# Altium schematic symbol library SCH - MCU - STM32 - ST MICROELECTRONICS STM32N657A0HXQ VFBGA169.SchLib: 1 symbol
Pins are listed as number, name and electrical type; pins without a type are passive.

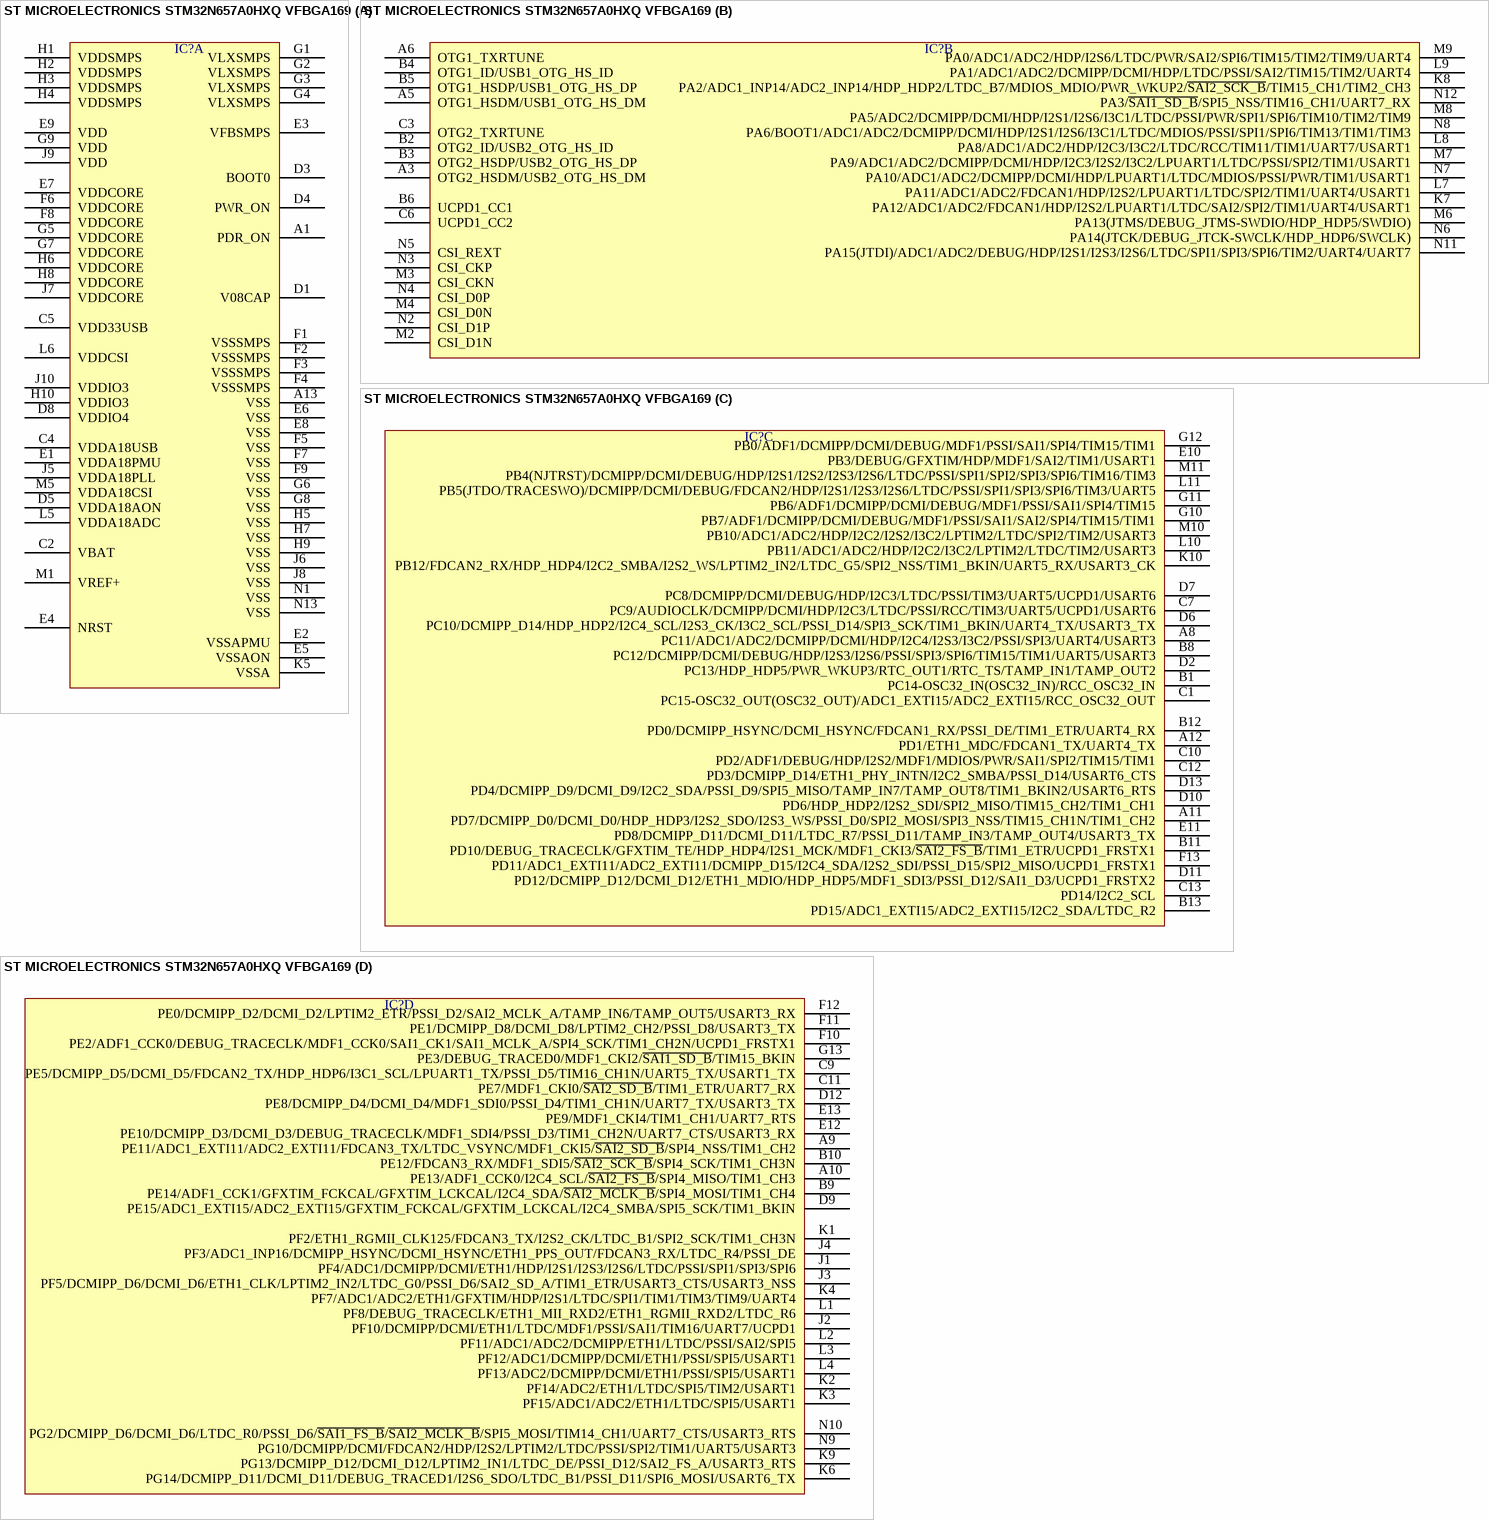
[diagram p0: symbol ST MICROELECTRONICS STM32N657A0HXQ VFBGA169]

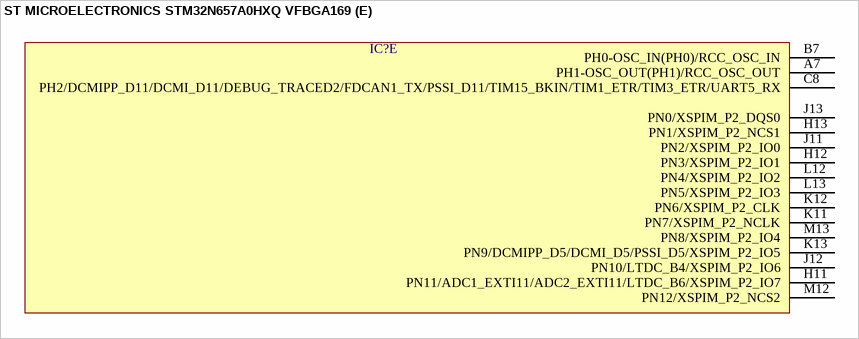
[diagram p1: symbol ST MICROELECTRONICS STM32N657A0HXQ VFBGA169]

## ST MICROELECTRONICS STM32N657A0HXQ VFBGA169
designator IC?
part A pins: A1 PDR_ON, A13 VSS, C2 VBAT, C4 VDDA18USB, C5 VDD33USB, D1 V08CAP, D3 BOOT0, D4 PWR_ON, D5 VDDA18AON, D8 VDDIO4, E1 VDDA18PMU, E2 VSSAPMU, E3 VFBSMPS, E4 NRST, E5 VSSAON, E6 VSS, E7 VDDCORE, E8 VSS, E9 VDD, F1 VSSSMPS, F2 VSSSMPS, F3 VSSSMPS, F4 VSSSMPS, F5 VSS, F6 VDDCORE, F7 VSS, F8 VDDCORE, F9 VSS, G1 VLXSMPS, G2 VLXSMPS, G3 VLXSMPS, G4 VLXSMPS, G5 VDDCORE, G6 VSS, G7 VDDCORE, G8 VSS, G9 VDD, H1 VDDSMPS, H2 VDDSMPS, H3 VDDSMPS, H4 VDDSMPS, H5 VSS, H6 VDDCORE, H7 VSS, H8 VDDCORE, H9 VSS, H10 VDDIO3, J5 VDDA18PLL, J6 VSS, J7 VDDCORE, J8 VSS, J9 VDD, J10 VDDIO3, K5 VSSA, L5 VDDA18ADC, L6 VDDCSI, M1 VREF+, M5 VDDA18CSI, N1 VSS, N13 VSS
part B pins: A3 OTG2_HSDM/USB2_OTG_HS_DM, A5 OTG1_HSDM/USB1_OTG_HS_DM, A6 OTG1_TXRTUNE, B2 OTG2_ID/USB2_OTG_HS_ID, B3 OTG2_HSDP/USB2_OTG_HS_DP, B4 OTG1_ID/USB1_OTG_HS_ID, B5 OTG1_HSDP/USB1_OTG_HS_DP, B6 UCPD1_CC1, C3 OTG2_TXRTUNE, C6 UCPD1_CC2, K7 PA12/ADC1/ADC2/FDCAN1/HDP/I2S2/LPUART1/LTDC/SAI2/SPI2/TIM1/UART4/USART1, K8 PA2/ADC1_INP14/ADC2_INP14/HDP_HDP2/LTDC_B7/MDIOS_MDIO/PWR_WKUP2/~{SAI2_SCK_B}/TIM15_CH1/TIM2_CH3, L7 PA11/ADC1/ADC2/FDCAN1/HDP/I2S2/LPUART1/LTDC/SPI2/TIM1/UART4/USART1, L8 PA8/ADC1/ADC2/HDP/I2C3/I3C2/LTDC/RCC/TIM11/TIM1/UART7/USART1, L9 PA1/ADC1/ADC2/DCMIPP/DCMI/HDP/LTDC/PSSI/SAI2/TIM15/TIM2/UART4, M2 CSI_D1N, M3 CSI_CKN, M4 CSI_D0N, M6 PA13(JTMS/DEBUG_JTMS-SWDIO/HDP_HDP5/SWDIO), M7 PA9/ADC1/ADC2/DCMIPP/DCMI/HDP/I2C3/I2S2/I3C2/LPUART1/LTDC/PSSI/SPI2/TIM1/USART1, M8 PA5/ADC2/DCMIPP/DCMI/HDP/I2S1/I2S6/I3C1/LTDC/PSSI/PWR/SPI1/SPI6/TIM10/TIM2/TIM9, M9 PA0/ADC1/ADC2/HDP/I2S6/LTDC/PWR/SAI2/SPI6/TIM15/TIM2/TIM9/UART4, N2 CSI_D1P, N3 CSI_CKP, N4 CSI_D0P, N5 CSI_REXT, N6 PA14(JTCK/DEBUG_JTCK-SWCLK/HDP_HDP6/SWCLK), N7 PA10/ADC1/ADC2/DCMIPP/DCMI/HDP/LPUART1/LTDC/MDIOS/PSSI/PWR/TIM1/USART1, N8 PA6/BOOT1/ADC1/ADC2/DCMIPP/DCMI/HDP/I2S1/I2S6/I3C1/LTDC/MDIOS/PSSI/SPI1/SPI6/TIM13/TIM1/TIM3, N11 PA15(JTDI)/ADC1/ADC2/DEBUG/HDP/I2S1/I2S3/I2S6/LTDC/SPI1/SPI3/SPI6/TIM2/UART4/UART7, N12 PA3/~{SAI1_SD_B}/SPI5_NSS/TIM16_CH1/UART7_RX
part C pins: A8 PC11/ADC1/ADC2/DCMIPP/DCMI/HDP/I2C4/I2S3/I3C2/PSSI/SPI3/UART4/USART3, A11 PD7/DCMIPP_D0/DCMI_D0/HDP_HDP3/I2S2_SDO/I2S3_WS/PSSI_D0/SPI2_MOSI/SPI3_NSS/TIM15_CH1N/TIM1_CH2, A12 PD1/ETH1_MDC/FDCAN1_TX/UART4_TX, B1 PC14-OSC32_IN(OSC32_IN)/RCC_OSC32_IN, B8 PC12/DCMIPP/DCMI/DEBUG/HDP/I2S3/I2S6/PSSI/SPI3/SPI6/TIM15/TIM1/UART5/USART3, B11 PD10/DEBUG_TRACECLK/GFXTIM_TE/HDP_HDP4/I2S1_MCK/MDF1_CKI3/~{SAI2_FS_B}/TIM1_ETR/UCPD1_FRSTX1, B12 PD0/DCMIPP_HSYNC/DCMI_HSYNC/FDCAN1_RX/PSSI_DE/TIM1_ETR/UART4_RX, B13 PD15/ADC1_EXTI15/ADC2_EXTI15/I2C2_SDA/LTDC_R2, C1 PC15-OSC32_OUT(OSC32_OUT)/ADC1_EXTI15/ADC2_EXTI15/RCC_OSC32_OUT, C7 PC9/AUDIOCLK/DCMIPP/DCMI/HDP/I2C3/LTDC/PSSI/RCC/TIM3/UART5/UCPD1/USART6, C10 PD2/ADF1/DEBUG/HDP/I2S2/MDF1/MDIOS/PWR/SAI1/SPI2/TIM15/TIM1, C12 PD3/DCMIPP_D14/ETH1_PHY_INTN/I2C2_SMBA/PSSI_D14/USART6_CTS, C13 PD14/I2C2_SCL, D2 PC13/HDP_HDP5/PWR_WKUP3/RTC_OUT1/RTC_TS/TAMP_IN1/TAMP_OUT2, D6 PC10/DCMIPP_D14/HDP_HDP2/I2C4_SCL/I2S3_CK/I3C2_SCL/PSSI_D14/SPI3_SCK/TIM1_BKIN/UART4_TX/USART3_TX, D7 PC8/DCMIPP/DCMI/DEBUG/HDP/I2C3/LTDC/PSSI/TIM3/UART5/UCPD1/USART6, D10 PD6/HDP_HDP2/I2S2_SDI/SPI2_MISO/TIM15_CH2/TIM1_CH1, D11 PD12/DCMIPP_D12/DCMI_D12/ETH1_MDIO/HDP_HDP5/MDF1_SDI3/PSSI_D12/SAI1_D3/UCPD1_FRSTX2, D13 PD4/DCMIPP_D9/DCMI_D9/I2C2_SDA/PSSI_D9/SPI5_MISO/TAMP_IN7/TAMP_OUT8/TIM1_BKIN2/USART6_RTS, E10 PB3/DEBUG/GFXTIM/HDP/MDF1/SAI2/TIM1/USART1, E11 PD8/DCMIPP_D11/DCMI_D11/LTDC_R7/PSSI_D11/TAMP_IN3/TAMP_OUT4/USART3_TX, F13 PD11/ADC1_EXTI11/ADC2_EXTI11/DCMIPP_D15/I2C4_SDA/I2S2_SDI/PSSI_D15/SPI2_MISO/UCPD1_FRSTX1, G10 PB7/ADF1/DCMIPP/DCMI/DEBUG/MDF1/PSSI/SAI1/SAI2/SPI4/TIM15/TIM1, G11 PB6/ADF1/DCMIPP/DCMI/DEBUG/MDF1/PSSI/SAI1/SPI4/TIM15, G12 PB0/ADF1/DCMIPP/DCMI/DEBUG/MDF1/PSSI/SAI1/SPI4/TIM15/TIM1, K10 PB12/FDCAN2_RX/HDP_HDP4/I2C2_SMBA/I2S2_WS/LPTIM2_IN2/LTDC_G5/SPI2_NSS/TIM1_BKIN/UART5_RX/USART3_CK, L10 PB11/ADC1/ADC2/HDP/I2C2/I3C2/LPTIM2/LTDC/TIM2/USART3, L11 PB5(JTDO/TRACESWO)/DCMIPP/DCMI/DEBUG/FDCAN2/HDP/I2S1/I2S3/I2S6/LTDC/PSSI/SPI1/SPI3/SPI6/TIM3/UART5, M10 PB10/ADC1/ADC2/HDP/I2C2/I2S2/I3C2/LPTIM2/LTDC/SPI2/TIM2/USART3, M11 PB4(NJTRST)/DCMIPP/DCMI/DEBUG/HDP/I2S1/I2S2/I2S3/I2S6/LTDC/PSSI/SPI1/SPI2/SPI3/SPI6/TIM16/TIM3
part D pins: A9 PE11/ADC1_EXTI11/ADC2_EXTI11/FDCAN3_TX/LTDC_VSYNC/MDF1_CKI5/~{SAI2_SD_B}/SPI4_NSS/TIM1_CH2, A10 PE13/ADF1_CCK0/I2C4_SCL/~{SAI2_FS_B}/SPI4_MISO/TIM1_CH3, B9 PE14/ADF1_CCK1/GFXTIM_FCKCAL/GFXTIM_LCKCAL/I2C4_SDA/~{SAI2_MCLK_B}/SPI4_MOSI/TIM1_CH4, B10 PE12/FDCAN3_RX/MDF1_SDI5/~{SAI2_SCK_B}/SPI4_SCK/TIM1_CH3N, C9 PE5/DCMIPP_D5/DCMI_D5/FDCAN2_TX/HDP_HDP6/I3C1_SCL/LPUART1_TX/PSSI_D5/TIM16_CH1N/UART5_TX/USART1_TX, C11 PE7/MDF1_CKI0/~{SAI2_SD_B}/TIM1_ETR/UART7_RX, D9 PE15/ADC1_EXTI15/ADC2_EXTI15/GFXTIM_FCKCAL/GFXTIM_LCKCAL/I2C4_SMBA/SPI5_SCK/TIM1_BKIN, D12 PE8/DCMIPP_D4/DCMI_D4/MDF1_SDI0/PSSI_D4/TIM1_CH1N/UART7_TX/USART3_TX, E12 PE10/DCMIPP_D3/DCMI_D3/DEBUG_TRACECLK/MDF1_SDI4/PSSI_D3/TIM1_CH2N/UART7_CTS/USART3_RX, E13 PE9/MDF1_CKI4/TIM1_CH1/UART7_RTS, F10 PE2/ADF1_CCK0/DEBUG_TRACECLK/MDF1_CCK0/SAI1_CK1/SAI1_MCLK_A/SPI4_SCK/TIM1_CH2N/UCPD1_FRSTX1, F11 PE1/DCMIPP_D8/DCMI_D8/LPTIM2_CH2/PSSI_D8/USART3_TX, F12 PE0/DCMIPP_D2/DCMI_D2/LPTIM2_ETR/PSSI_D2/SAI2_MCLK_A/TAMP_IN6/TAMP_OUT5/USART3_RX, G13 PE3/DEBUG_TRACED0/MDF1_CKI2/~{SAI1_SD_B}/TIM15_BKIN, J1 PF4/ADC1/DCMIPP/DCMI/ETH1/HDP/I2S1/I2S3/I2S6/LTDC/PSSI/SPI1/SPI3/SPI6, J2 PF10/DCMIPP/DCMI/ETH1/LTDC/MDF1/PSSI/SAI1/TIM16/UART7/UCPD1, J3 PF5/DCMIPP_D6/DCMI_D6/ETH1_CLK/LPTIM2_IN2/LTDC_G0/PSSI_D6/SAI2_SD_A/TIM1_ETR/USART3_CTS/USART3_NSS, J4 PF3/ADC1_INP16/DCMIPP_HSYNC/DCMI_HSYNC/ETH1_PPS_OUT/FDCAN3_RX/LTDC_R4/PSSI_DE, K1 PF2/ETH1_RGMII_CLK125/FDCAN3_TX/I2S2_CK/LTDC_B1/SPI2_SCK/TIM1_CH3N, K2 PF14/ADC2/ETH1/LTDC/SPI5/TIM2/USART1, K3 PF15/ADC1/ADC2/ETH1/LTDC/SPI5/USART1, K4 PF7/ADC1/ADC2/ETH1/GFXTIM/HDP/I2S1/LTDC/SPI1/TIM1/TIM3/TIM9/UART4, K6 PG14/DCMIPP_D11/DCMI_D11/DEBUG_TRACED1/I2S6_SDO/LTDC_B1/PSSI_D11/SPI6_MOSI/USART6_TX, K9 PG13/DCMIPP_D12/DCMI_D12/LPTIM2_IN1/LTDC_DE/PSSI_D12/SAI2_FS_A/USART3_RTS, L1 PF8/DEBUG_TRACECLK/ETH1_MII_RXD2/ETH1_RGMII_RXD2/LTDC_R6, L2 PF11/ADC1/ADC2/DCMIPP/ETH1/LTDC/PSSI/SAI2/SPI5, L3 PF12/ADC1/DCMIPP/DCMI/ETH1/PSSI/SPI5/USART1, L4 PF13/ADC2/DCMIPP/DCMI/ETH1/PSSI/SPI5/USART1, N9 PG10/DCMIPP/DCMI/FDCAN2/HDP/I2S2/LPTIM2/LTDC/PSSI/SPI2/TIM1/UART5/USART3, N10 PG2/DCMIPP_D6/DCMI_D6/LTDC_R0/PSSI_D6/~{SAI1_FS_B}/~{SAI2_MCLK_B}/SPI5_MOSI/TIM14_CH1/UART7_CTS/USART3_RTS
part E pins: A7 PH1-OSC_OUT(PH1)/RCC_OSC_OUT, B7 PH0-OSC_IN(PH0)/RCC_OSC_IN, C8 PH2/DCMIPP_D11/DCMI_D11/DEBUG_TRACED2/FDCAN1_TX/PSSI_D11/TIM15_BKIN/TIM1_ETR/TIM3_ETR/UART5_RX, H11 PN11/ADC1_EXTI11/ADC2_EXTI11/LTDC_B6/XSPIM_P2_IO7, H12 PN3/XSPIM_P2_IO1, H13 PN1/XSPIM_P2_NCS1, J11 PN2/XSPIM_P2_IO0, J12 PN10/LTDC_B4/XSPIM_P2_IO6, J13 PN0/XSPIM_P2_DQS0, K11 PN7/XSPIM_P2_NCLK, K12 PN6/XSPIM_P2_CLK, K13 PN9/DCMIPP_D5/DCMI_D5/PSSI_D5/XSPIM_P2_IO5, L12 PN4/XSPIM_P2_IO2, L13 PN5/XSPIM_P2_IO3, M12 PN12/XSPIM_P2_NCS2, M13 PN8/XSPIM_P2_IO4